# Altium schematic symbol library ECS-3961-160-AU-TR.SchLib: 1 symbol
Pins are listed as number, name and electrical type; pins without a type are passive.

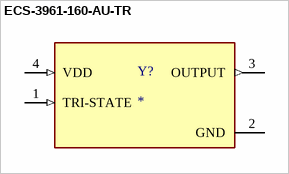
[diagram p0: symbol ECS-3961-160-AU-TR]

## ECS-3961-160-AU-TR
designator Y?
miniature SMD crystal controlled oscillators; MP: ECS-3961-160-AU-TR; Package: None; Price: None; Value: *; Availability: Unavailable
footprint OSC_ECS-3961-160-AU-TR
pins: 1 TRI-STATE (in), 2 GND (power), 3 OUTPUT (out), 4 VDD (in)